# EAGLE library part DMP3098LSD-13 (library DMP3098LSD-13)
MOSFET PMOS-DUAL Source: Datasheet <https://www.diodes.com/assets/Datasheets/ds31448.pdf>
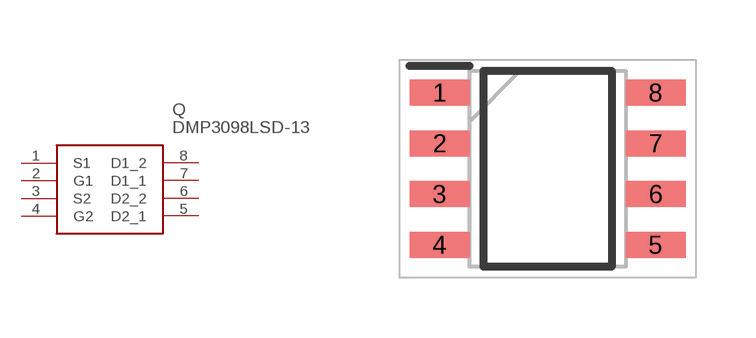
[diagram p0: symbol with the pads of SOIC127P600X175-8N; footprint SOIC127P600X175-8N]

Designator prefix Q

## DMP3098LSD-13 (Description: MOSFET PMOS-DUAL; Height: 1.75mm; Manufacturer_Name: Diodes Inc.; Manufacturer_Part_Number: DMP3098LSD-13; Mouser_Part_Number: 621-DMP3098LSD-13; Mouser_Price-Stock: https://www.mouser.co.uk/ProductDetail/Diodes-Incorporated/DMP3098LSD-13?qs=oUsD4qhOtFxafARAi3NzqQ%3D%3D)  [SOIC127P600X175-8N]
1  S1
2  G1
3  S2
4  G2
5  D2_1
6  D2_2
7  D1_1
8  D1_2

## Footprint SOIC127P600X175-8N (pad centres in mm)
SO-8
smd 1.5 x 0.65: 1 -2.7,1.905; 2 -2.7,0.635; 3 -2.7,-0.635; 4 -2.7,-1.905; 5 2.7,-1.905; 6 2.7,-0.635; 7 2.7,0.635; 8 2.7,1.905